# Altium footprint library VGFN32-9_INFINEON.PcbLib: 1 footprints
Each footprint in its own frame and in the unit in brackets; x right, y up, seen from the top. Pads: shape width x height; smd on the part's side, far side on the other; paste and mask are expansions set on the pad; w line width, h text height; cw(c..) or ccw(c..) is an arc to the next point about the centre after c.
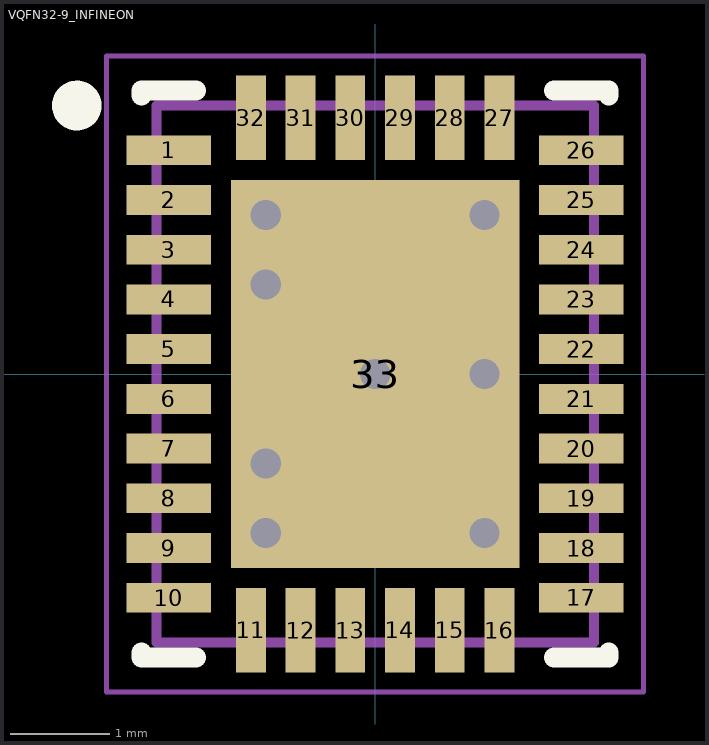
[diagram p0: the footprint, top view; thin cyan lines are the x and y axes]

## VQFN32-9_INFINEON [mm]
height 0.9
pads (33):
  rect 0.85x0.3 smd mask+0.05: 1(-2.075,2.25) 2(-2.075,1.75) 3(-2.075,1.25) 4(-2.075,0.75) 5(-2.075,0.25) 6(-2.075,-0.25) 7(-2.075,-0.75) 8(-2.075,-1.25) 9(-2.075,-1.75) 10(-2.075,-2.25) 17(2.075,-2.25) 18(2.075,-1.75) 19(2.075,-1.25) 20(2.075,-0.75) 21(2.075,-0.25) 22(2.075,0.25) 23(2.075,0.75) 24(2.075,1.25) 25(2.075,1.75) 26(2.075,2.25)
  rect 0.3x0.85 smd mask+0.05: 11(-1.25,-2.575) 12(-0.75,-2.575) 13(-0.25,-2.575) 14(0.25,-2.575) 15(0.75,-2.575) 16(1.25,-2.575) 27(1.25,2.575) 28(0.75,2.575) 29(0.25,2.575) 30(-0.25,2.575) 31(-0.75,2.575) 32(-1.25,2.575)
  rect 2.9x3.9 smd paste-100 mask+0.05: 33(0,0)
via 0,0 diameter 0.559 hole 0.305
via -1.1,1.6 diameter 0.559 hole 0.305
via 1.1,-1.6 diameter 0.559 hole 0.305
via -1.1,-1.6 diameter 0.559 hole 0.305
via 1.1,0 diameter 0.559 hole 0.305
via -1.1,-0.9 diameter 0.559 hole 0.305
via 1.1,1.6 diameter 0.559 hole 0.305
via -1.1,0.9 diameter 0.559 hole 0.305
Top Overlay:
  circle w0.25: c-3,2.7 r0.125
  lines w0.2: -2.35,-2.8 -2.35,-2.85 -1.8,-2.85 ; -2.35,2.8 -2.35,2.85 -1.8,2.85 ; 1.8,-2.85 2.35,-2.85 2.35,-2.8 ; 1.8,2.85 2.35,2.85 2.35,2.8
Top Paste:
  rectangle: 0.15,0.7 1.4,1.9
  rectangle: -1.4,0.7 -0.15,1.9
  rectangle: -1.4,-0.45 -0.2,0.45
  rectangle: -1.4,-1.9 -0.15,-0.7
  region: 0.2,-0.45 0.2,0.45 1.4,0.45 1.4,-0.45
  region: 0.15,-1.9 0.15,-0.7 1.4,-0.7 1.4,-1.9
Mechanical 13:
  lines w0.1: -2.2,-2.7 2.2,-2.7 2.2,2.7 -2.2,2.7 -2.2,-2.7
Mechanical 15:
  lines w0.05: -2.7,-3.2 2.7,-3.2 2.7,3.2 -2.7,3.2 -2.7,-3.2
  lines w0.1: -0.5,0 0.5,0 ; 0,-0.5 0,0.5
3D body "VQFN32-9_INFINEON.step": height 0.9, standoff 0, extent -2.25,-2.75 2.25,2.75